# Altium schematic symbol library SCH - LDO - REF4132B25DBVRQ1.Schlib: 1 symbol
Pins are listed as number, name and electrical type; pins without a type are passive.

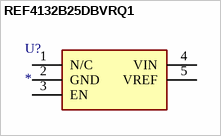
[diagram p0: symbol REF4132B25DBVRQ1]

## REF4132B25DBVRQ1
designator U?
Integrated Circuit
pins: 1 N/C, 2 GND, 3 EN, 4 VIN, 5 VREF